# Altium footprint library PCB - CONNECTOR - WURTH 634008149821.PCBLIB: 1 footprints
Each footprint in its own frame and in the unit in brackets; x right, y up, seen from the top. Pads: shape width x height; smd on the part's side, far side on the other; paste and mask are expansions set on the pad; w line width, h text height; cw(c..) or ccw(c..) is an arc to the next point about the centre after c.
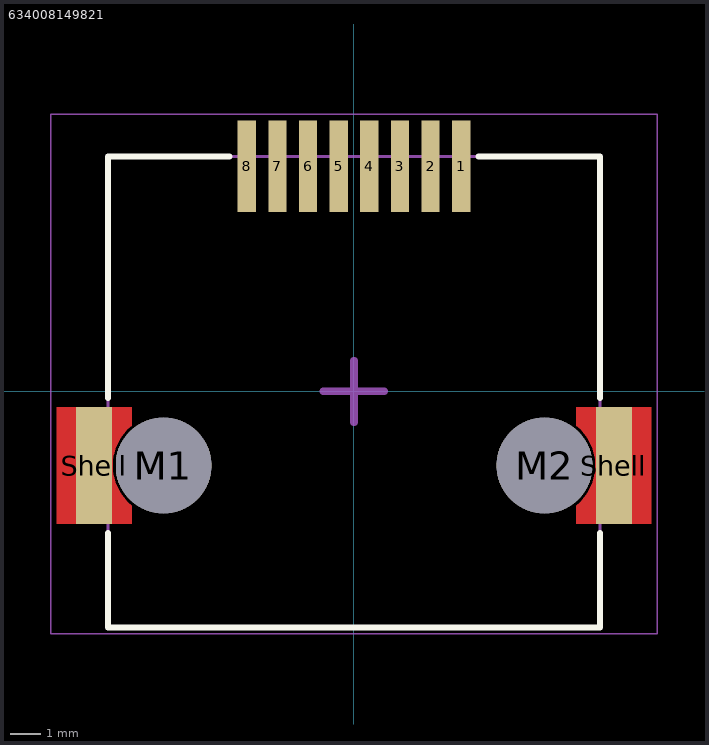
[diagram p0: the footprint, top view; thin cyan lines are the x and y axes]

## 634008149821 [mm] "Modular Jack Horizontal Shielded SMT 8P8C Tab Up"
height 13.5
pads (12):
  rect 0.61x3.05 smd: 1(3.57,7.505) 2(2.55,7.505) 3(1.53,7.505) 4(0.51,7.505) 5(-0.51,7.505) 6(-1.53,7.505) 7(-2.55,7.505) 8(-3.57,7.505)
  round 3.2 hole 3.2 unplated: M1(-6.35,-2.475) M2(6.35,-2.475)
  rect 1.2x3.89 smd paste-403.566 mask-403.566: Shell(-8.66,-2.475) Shell(8.66,-2.475)
Top Layer:
  region: -9.91,-4.42 -7.41,-4.42 -7.41,-3.807 -7.553,-3.679 -7.791,-3.381 -7.956,-3.038 -8.041,-2.666 -8.041,-2.284 -7.956,-1.912 -7.791,-1.569 -7.553,-1.271 -7.41,-1.143 -7.41,-0.53 -9.91,-0.53
  region: 9.91,-4.42 7.41,-4.42 7.41,-3.807 7.553,-3.679 7.791,-3.381 7.956,-3.038 8.041,-2.666 8.041,-2.284 7.956,-1.912 7.791,-1.569 7.553,-1.271 7.41,-1.143 7.41,-0.53 9.91,-0.53
Top Overlay:
  lines w0.2: -8.2,-4.725 -8.2,-7.875 8.2,-7.875 8.2,-4.725 ; -8.2,-0.225 -8.2,7.825 -4.15,7.825 ; 4.15,7.825 8.2,7.825 8.2,-0.225
Top Assembly:
  lines w0.1: -8.2,-7.875 -8.2,7.825 8.2,7.825 8.2,-7.875 -8.2,-7.875
Top Courtyard:
  lines w0.05: -10.11,-8.075 -10.11,9.23 10.11,9.23 10.11,-8.075 -10.11,-8.075
Top Designator:
  text ".Designator" at -4.577,-6.735 h2.03
Top Component Center:
  lines w0.254: -1.025,0 1,0 0,0 ; 0,0 0,-1.025 0,0 ; 0,0 0,1.025 0,0
3D body "634008149821.stp": height 13.45, standoff -1.25, extent -9.4,-7.875 9.4,8.425